# Altium schematic symbol library Buck_Library.SchLib: 11 symbols
Pins are listed as number, name and electrical type; pins without a type are passive.

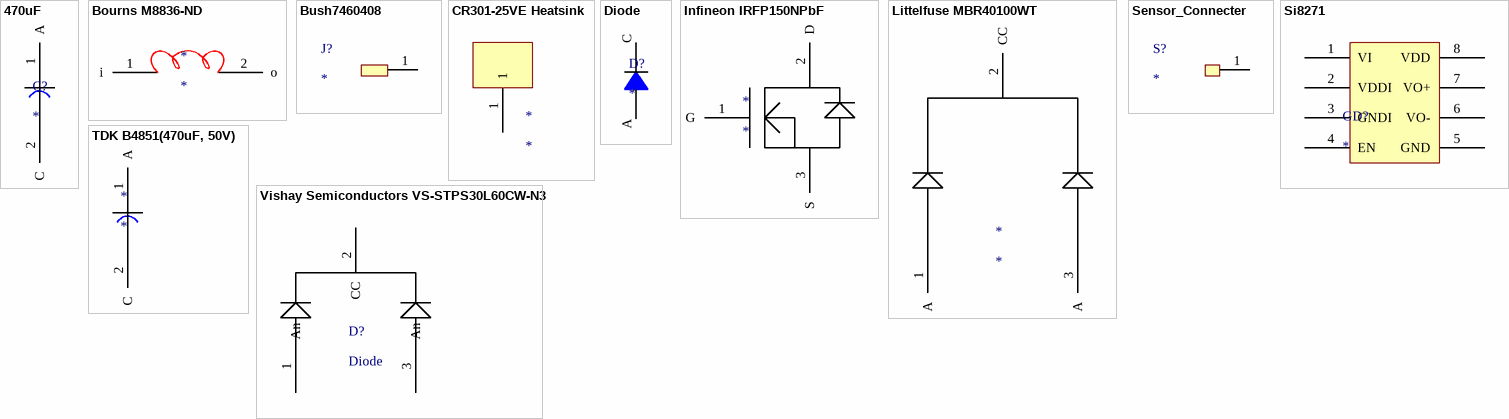
[diagram p0: symbols 470uF to Vishay Semiconductors VS-STPS30L60CW-N3]

## 470uF
designator C?
footprint EPCOS TDK B4851 (Aluminum Electrolytic Cap 100V 47uF Digikey 495-5978-ND)
footprint EPCOS TDK B4851 (Aluminum Electrolytic Cap 100V 47uF x 10 Digikey 495-5978-ND)
pins: 1 A, 2 C

## Bourns M8836-ND
designator *
footprint Bourns M8836-ND
pins: 1 i, 2 o

## Bush7460408
designator J?
footprint Bush7460408 (Power Connecter 12pin)
pins: 1

## CR301-25VE Heatsink
designator *
Ohmite Heatsink   CR301-25VE Mouser 588-CR301-25VE
footprint CR301-25VE (Ohmite Heatsink   CR301-25VE Mouser 588-CR301-25VE)
pins: 1

## Diode
designator D?
Schottky Diode 30V 5A / Digikey 568-6519-1-ND
footprint SOD128Diode
pins: A, C

## Infineon IRFP150NPbF
designator *
footprint Infineon IRFP150NPbF
pins: 1 G, 2 D, 3 S

## Littelfuse MBR40100WT
designator *
Schottky Barrier Diode / http://www.littelfuse.com/~/media/electronics/datasheets/power_semiconductors/littelfuse_power_semiconductor_schottky_diode_mbr40100wt_datasheet.pdf.pdf
footprint Littelfuse MBR40100WT
pins: 1 A, 2 CC, 3 A

## Sensor_Connecter
designator S?
Sensor Connecter
footprint Sensor_Connecter
pins: 1

## Si8271
designator GD?
8-Pin Gate Driver
footprint IPC-7351 SOIC127P600X173-8N
pins: 1 VI, 2 VDDI, 3 GNDI, 4 EN, 5 GND, 6 VO-, 7 VO+, 8 VDD

## TDK B4851(470uF, 50V)
designator *
footprint TDK B4851(470uF, 50V)
pins: 1 A, 2 C

## Vishay Semiconductors VS-STPS30L60CW-N3
designator D?, comment Diode
Vishay Semiconductors Schottky Rectifier Diode Digikey / VS-STPS30L60CW-N3GI-ND
footprint TO-247AC
pins: 1 An, 2 CC, 3 An